# Altium footprint library NHD0420D3ZFLGBWV3.PcbLib: 1 footprints
Each footprint in its own frame and in the unit in brackets; x right, y up, seen from the top. Pads: shape width x height; smd on the part's side, far side on the other; paste and mask are expansions set on the pad; w line width, h text height; cw(c..) or ccw(c..) is an arc to the next point about the centre after c.
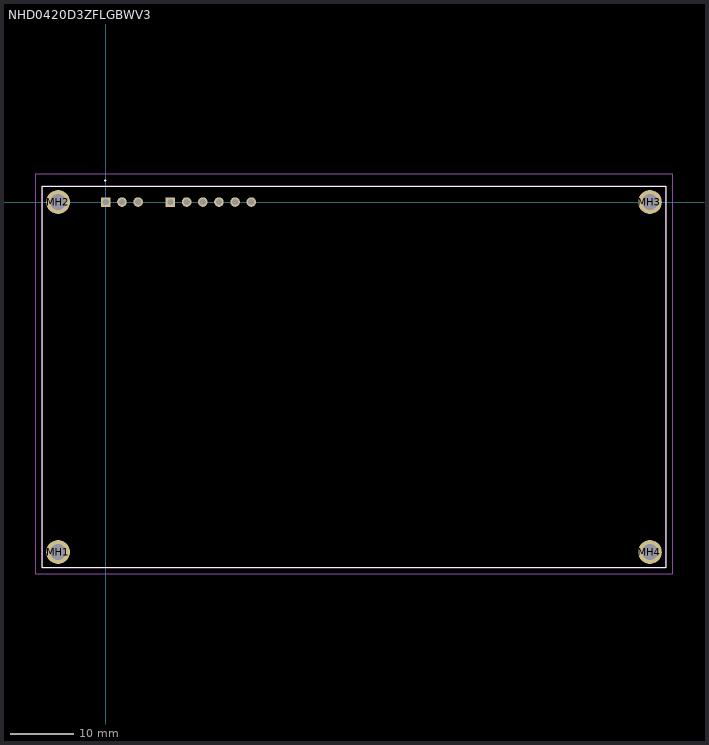
[diagram p0: the footprint, top view; thin cyan lines are the x and y axes]

## NHD0420D3ZFLGBWV3 [mm]
pads (13):
  rect 1.5x1.5 hole 1: J11(0,0) J21(10.16,0)
  round 1.5 hole 1: J12(2.54,0) J13(5.08,0) J22(12.7,0) J23(15.24,0) J24(17.78,0) J25(20.32,0) J26(22.86,0)
  round 3.75 hole 2.5: MH1(-7.5,-55) MH2(-7.5,0) MH3(85.5,0) MH4(85.5,-55)
Top Overlay:
  lines w0.1: -10,-57.5 88,-57.5 88,2.5 -10,2.5 -10,-57.5
  lines w0.2: -0.14,3.4 -0.14,3.4 ; -0.14,3.4 ccw(c-0.09,3.4) -0.04,3.4 ; -0.14,3.4 cw(c-0.09,3.4) -0.04,3.4 ; -0.14,3.4 -0.14,3.4 ; -0.14,3.4 ccw(c-0.09,3.4) -0.04,3.4 ; -0.04,3.4 -0.04,3.4
Mechanical 15:
  lines w0.2: -10,-57.5 88,-57.5 88,2.5 -10,2.5 -10,-57.5
Mechanical 20:
  lines w0.1: -11,-58.5 89,-58.5 89,4.45 -11,4.45 -11,-58.5